# EAGLE library part PINTO_SMD (library MAAV)
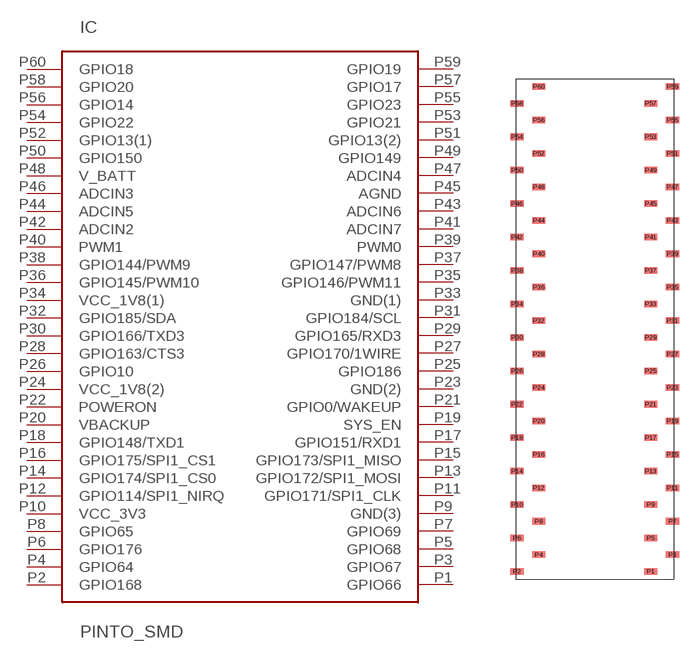
[diagram p10: symbol with the pads of PINTO_SMD; footprint PINTO_SMD]

Designator prefix IC

## PINTO_SMD  [PINTO_SMD]
P1  GPIO66
P2  GPIO168
P3  GPIO67
P4  GPIO64
P5  GPIO68
P6  GPIO176
P7  GPIO69
P8  GPIO65
P9  GND(3)
P10  VCC_3V3
P11  GPIO171/SPI1_CLK
P12  GPIO114/SPI1_NIRQ
P13  GPIO172/SPI1_MOSI
P14  GPIO174/SPI1_CS0
P15  GPIO173/SPI1_MISO
P16  GPIO175/SPI1_CS1
P17  GPIO151/RXD1
P18  GPIO148/TXD1
P19  SYS_EN
P20  VBACKUP
P21  GPIO0/WAKEUP
P22  POWERON
P23  GND(2)
P24  VCC_1V8(2)
P25  GPIO186
P26  GPIO10
P27  GPIO170/1WIRE
P28  GPIO163/CTS3
P29  GPIO165/RXD3
P30  GPIO166/TXD3
P31  GPIO184/SCL
P32  GPIO185/SDA
P33  GND(1)
P34  VCC_1V8(1)
P35  GPIO146/PWM11
P36  GPIO145/PWM10
P37  GPIO147/PWM8
P38  GPIO144/PWM9
P39  PWM0
P40  PWM1
P41  ADCIN7
P42  ADCIN2
P43  ADCIN6
P44  ADCIN5
P45  AGND
P46  ADCIN3
P47  ADCIN4
P48  V_BATT
P49  GPIO149
P50  GPIO150
P51  GPIO13(2)
P52  GPIO13(1)
P53  GPIO21
P54  GPIO22
P55  GPIO23
P56  GPIO14
P57  GPIO17
P58  GPIO20
P59  GPIO19
P60  GPIO18

## Footprint PINTO_SMD (pad centres in mm)
smd 2 x 1: P1 8.509,-36.83; P2 -11.811,-36.83; P3 11.811,-34.29; P4 -8.509,-34.29; P5 8.509,-31.75; P6 -11.811,-31.75; P7 11.811,-29.21; P8 -8.509,-29.21; P9 8.509,-26.67; P10 -11.811,-26.67; P11 11.811,-24.13; P12 -8.509,-24.13; P13 8.509,-21.59; P14 -11.811,-21.59; P15 11.811,-19.05; P16 -8.509,-19.05; P17 8.509,-16.51; P18 -11.811,-16.51; P19 11.811,-13.97; P20 -8.509,-13.97; P21 8.509,-11.43; P22 -11.811,-11.43; P23 11.811,-8.89; P24 -8.509,-8.89; P25 8.509,-6.35; P26 -11.811,-6.35; P27 11.811,-3.81; P28 -8.509,-3.81; P29 8.509,-1.27; P30 -11.811,-1.27; P31 11.811,1.27; P32 -8.509,1.27; P33 8.509,3.81; P34 -11.811,3.81; P35 11.811,6.35; P36 -8.509,6.35; P37 8.509,8.89; P38 -11.811,8.89; P39 11.811,11.43; P40 -8.509,11.43; P41 8.509,13.97; P42 -11.811,13.97; P43 11.811,16.51; P44 -8.509,16.51; P45 8.509,19.05; P46 -11.811,19.05; P47 11.811,21.59; P48 -8.509,21.59; P49 8.509,24.13; P50 -11.811,24.13; P51 11.811,26.67; P52 -8.509,26.67; P53 8.509,29.21; P54 -11.811,29.21; P55 11.811,31.75; P56 -8.509,31.75; P57 8.509,34.29; P58 -11.811,34.29; P59 11.811,36.83; P60 -8.509,36.83